# Altium integrated library Diode_SMD_SS14_Schottky_2040.IntLib: 1 symbol
Pins are listed as number, name and electrical type; pins without a type are passive.

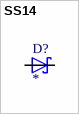
[diagram p0: symbol SS14]

## SS14
designator D?
Diode Schottky 40 V 1A Surface Mount DO-214AC (SMA); MF: onsemi; MP: SS14; SnapEDA_Link: https://www.snapeda.com/parts/SS14/Onsemi/view-part/?ref=snap; Package: SMA-2 ON Semiconductor; Value: *; Check_prices: https://www.snapeda.com/parts/SS14/Onsemi/view-part/?ref=eda
footprint DO-214AC
pins: A, K